# Altium schematic symbol library TPS61022.SchLib: 2 symbols
Pins are listed as number, name and electrical type; pins without a type are passive.

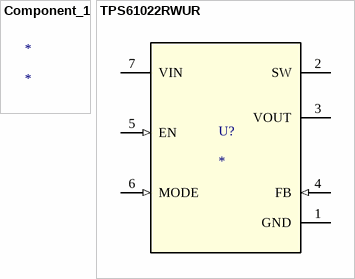
[diagram p0: symbols Component_1 to TPS61022RWUR]

## Component_1
designator *

## TPS61022RWUR
designator U?
Imported; Manufacturer: Texas Instruments; PartNumber: TPS61022RWUR; RefDes: RefDes; TYPE: TYPE; Value: Value
footprint RWU0007A
pins: 1 GND (power), 2 SW (power), 3 VOUT (power), 4 FB (in), 5 EN (in), 6 MODE (in), 7 VIN (power)